# Altium footprint library relay.PCBLIB: 291 footprints (part 15 of 19)
Each footprint in its own frame and in the unit in brackets; x right, y up, seen from the top. Pads: shape width x height; smd on the part's side, far side on the other; paste and mask are expansions set on the pad; w line width, h text height; cw(c..) or ccw(c..) is an arc to the next point about the centre after c.
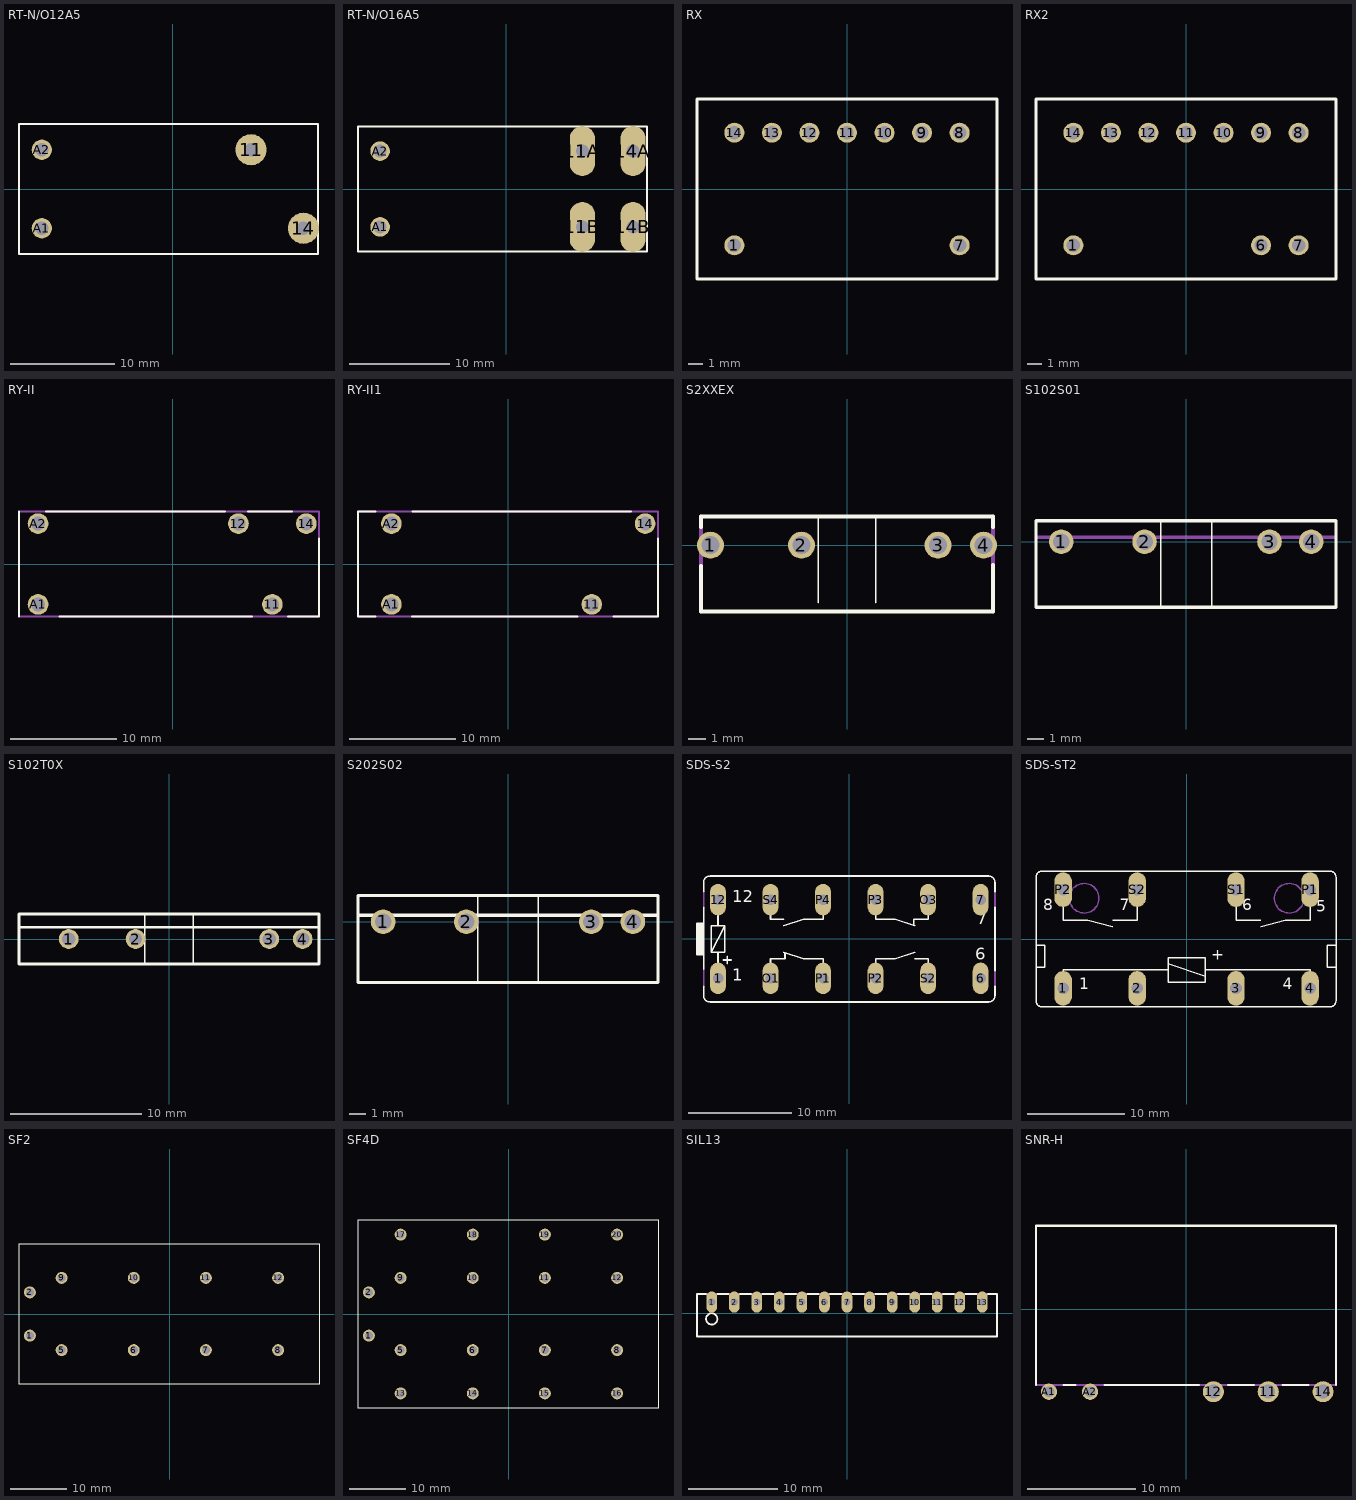
[diagram p14: the footprints below, top view; thin cyan lines are the x and y axes]

## RT-N/O12A5 [mm]
pads (4):
  round 3 hole 1.3: 11(7.56,3.78) 14(12.6,-3.78)
  round 1.95 hole 1.3: A1(-12.6,-3.78) A2(-12.6,3.78)
Top Overlay:
  lines w0.203: -14.8,-6.25 14,-6.25 14,6.25 -14.8,6.25 -14.8,-6.25

## RT-N/O16A5 [mil]
pads (6):
  oval 98.43x196.86 hole 51.18: 11A(297.64,148.82) 11B(297.64,-148.82) 14A(496.06,148.82) 14B(496.06,-148.82)
  round 76.77 hole 51.18: A1(-496.06,-148.82) A2(-496.06,148.82)
Top Overlay:
  lines w8: -582.68,-246.06 551.18,-246.06 551.18,246.06 -582.68,246.06 -582.68,-246.06

## RX [mil]
pads (9):
  round 53.15 hole 35.43: 1(-300,-150) 7(300,-150) 8(300,150) 9(200,150) 10(100,150) 11(0,150) 12(-100,150) 13(-200,150) 14(-300,150)
Top Overlay:
  lines w8: -399.61,-240.16 399.61,-240.16 399.61,240.16 -399.61,240.16 -399.61,-240.16

## RX2 [mil]
pads (10):
  round 53.15 hole 35.43: 1(-300,-150) 6(200,-150) 7(300,-150) 8(300,150) 9(200,150) 10(100,150) 11(0,150) 12(-100,150) 13(-200,150) 14(-300,150)
Top Overlay:
  lines w8: -399.61,-240.16 399.61,-240.16 399.61,240.16 -399.61,240.16 -399.61,-240.16

## RY-II [mil]
pads (5):
  round 76.77 hole 51.18: 11(370.08,-150) 12(244.09,150) 14(496.06,150) A1(-500,-150) A2(-500,150)
Top Overlay:
  lines w8: -570.87,-194.88 -570.87,194.88 ; -470.87,194.88 193.31,194.88 ; -420.87,-194.88 293.31,-194.88 ; 279.13,194.88 443.31,194.88 ; 429.13,-194.88 543.31,-194.88 543.31,94.88
Mechanical 16:
  lines w8: -570.87,-194.88 543.31,-194.88 543.31,194.88 -570.87,194.88

## RY-II1 [mil]
pads (4):
  round 76.77 hole 51.18: 11(311.02,-150) 14(509.45,150) A1(-433.07,-150) A2(-433.07,150)
Top Overlay:
  lines w8: -557.09,194.88 -557.09,-194.88 -492.91,-194.88 ; -553.94,194.88 -492.91,194.88 ; -357.09,-194.88 257.09,-194.88 ; -353.94,194.88 457.09,194.88 ; 392.91,-194.88 557.09,-194.88 557.09,94.88
Mechanical 16:
  lines w8: -557.09,-194.88 557.09,-194.88 557.09,194.88 -557.09,194.88

## S2XXEX [mm]
pads (4):
  round 1.5 hole 1: 1(-7.62,0) 2(-2.54,0) 3(5.08,0) 4(7.62,0)
Top Overlay:
  lines w0.1: -1.6,-3.2 -1.6,1.6 ; 1.6,-3.2 1.6,1.6
  lines w0.203: -8.15,-1.15 -8.15,-3.7 8.15,-3.7 8.15,-1.1 ; -8.15,1 -8.15,1.6 8.15,1.6 8.15,1
Mechanical 16:
  lines w0.203: -8.15,-3.7 -8.15,1.6 ; 8.15,-3.7 8.15,1.6

## S102S01 [mm]
pads (4):
  round 1.5 hole 1: 1(-7.62,0) 2(-2.54,0) 3(5.08,0) 4(7.62,0)
Top Overlay:
  lines w0.1: -1.55,-3.95 -1.55,1.225 ; 1.55,-3.925 1.55,1.23
  lines w0.203: -9.16,-4 9.135,-4 9.135,1.275 -9.16,1.275 -9.16,-4
Mechanical 16:
  lines w0.203: -9.085,0.275 9.035,0.275

## S102T0X [mm]
pads (4):
  round 1.5 hole 1: 1(-7.62,0) 2(-2.54,0) 3(7.62,0) 4(10.16,0)
Top Overlay:
  lines w0.1: -1.85,-1.85 -1.85,1.85 ; 1.85,-1.85 1.85,1.83
  lines w0.203: -11.3,0.9 11.3,0.9 ; -11.4,-1.9 11.4,-1.9 11.4,1.9 -11.4,1.9 -11.4,-1.9

## S202S02 [mm]
pads (4):
  round 1.5 hole 1: 1(-7.62,0) 2(-2.54,0) 3(5.08,0) 4(7.62,0)
Top Overlay:
  lines w0.1: -1.85,-3.65 -1.85,1.55 ; 1.85,-3.65 1.85,1.53
  lines w0.203: -9.025,0.4 9.075,0.4 ; -9.15,-3.7 9.15,-3.7 9.15,1.6 -9.15,1.6 -9.15,-3.7

## SDS-S2 [mil]
pads (12):
  oval 60x120 hole 40: 1(-500,-150) 6(500,-150) 7(500,150) 12(-500,150) O1(-300,-150) O3(300,150) P1(-100,-150) P2(100,-150) P3(100,150) P4(-100,150) S2(300,-150) S4(-300,150)
Top Overlay:
  rectangle: -580,-60 -555,60
  lines w6: -555,-180 -555,-215 ccw(c-530,-215) -530,-240 530,-240 ccw(c530,-215) 555,-215 555,-180 ; -555,-115 -555,-60 ; -555,120 -555,60 ; -555,180 -555,215 cw(c-530,215) -530,240 530,240 cw(c530,215) 555,215 555,180 ; -500,-95 -500,-50 ; -500,95 -500,50 ; -480,-80 -450,-80 ; -465,-95 -465,-65 ; -300,-95 -300,-75 -245,-75 -245,-55 ; -300,95 -300,75 -250,75 ; -250,-50 -175,-75 -100,-75 -100,-95 ; -250,50 -175,75 -100,75 -100,95 ; 100,-95 100,-75 175,-75 250,-50 ; 100,95 100,75 175,75 250,50 ; 245,55 245,75 300,75 300,95 ; 250,-75 300,-75 300,-95 ; 555,-120 555,120 ; -555,-60 -580,-60 -580,60 -555,60 ; -555,-60 -555,60 ; -525,-50 -525,50 -500,50 ; -525,-50 -500,-50 ; -525,-50 -475,50 ; -500,-50 -475,-50 -475,50 ; -500,50 -475,50
  text "1" at -445,-175 h77.5
  text "6" at 480,-95 h77.5
  text "7" at 485,40 h77.5
  text "12" at -445,125 h77.5
Mechanical 16:
  lines w6: -555,-180 -555,-115 ; -555,120 -555,180 ; 555,-180 555,-120 ; 555,120 555,180
  text "SDS-S2" at 425,-150 h77.5

## SDS-ST2 [mil]
pads (8):
  oval 70.5x141 hole 47: 1(-500,-200) 2(-200,-200) 3(200,-200) 4(500,-200) P1(500,200) P2(-500,200) S1(200,200) S2(-200,200)
Top Overlay:
  lines w6: -500,-145 -500,-125 -75,-125 ; -500,145 -500,75 -400,75 -300,50 ; -300,75 -200,75 -200,145 ; 200,145 200,75 300,75 ; 300,50 400,75 500,75 500,145 ; 500,-145 500,-125 75,-125 ; -610,-115 -610,-250 ccw(c-585,-250) -585,-275 580,-275 ccw(c580,-250) 605,-250 605,-115 ; -610,-115 -575,-115 -575,-25 -610,-25 ; -610,-115 -610,-25 ; -610,-25 -610,250 cw(c-585,250) -585,275 580,275 cw(c580,250) 605,250 605,-25 ; -75,-125 -75,-175 75,-175 75,-150 ; -75,-125 -75,-100 ; -75,-100 75,-150 ; -75,-100 -75,-75 75,-75 75,-125 ; 75,-150 75,-125 ; 605,-115 570,-115 570,-25 605,-25 ; 605,-115 605,-25
  text "1" at -435,-220 h77.5
  text "4" at 390,-220 h77.5
  text "5" at 525,95 h77.5
  text "6" at 225,100 h77.5
  text "7" at -270,100 h77.5
  text "8" at -580,100 h77.5
  text "+" at 100,-100 h77.5
Mechanical 16:
  circle w6: c415,165 r60
  circle w6: c-415,165 r60
  text "SDS-ST2" at -160,75 h77.5

## SF2 [mil]
pads (10):
  round 82.68 hole 55.12: 1(-970,-150) 2(-970,150) 5(-750,-250) 6(-250,-250) 7(250,-250) 8(750,-250) 9(-750,250) 10(-250,250) 11(250,250) 12(750,250)
Top Overlay:
  lines w8: -1045.28,-488.19 1033.46,-488.19 1033.46,488.19 -1045.28,488.19 -1045.28,-488.19

## SF4D [mil]
pads (18):
  round 82.68 hole 55.12: 1(-970,-150) 2(-970,150) 5(-750,-250) 6(-250,-250) 7(250,-250) 8(750,-250) 9(-750,250) 10(-250,250) 11(250,250) 12(750,250) 13(-750,-550) 14(-250,-550) 15(250,-550) 16(750,-550) 17(-750,550) 18(-250,550) 19(250,550) 20(750,550)
Top Overlay:
  lines w8: -1045.28,-653.94 1033.46,-653.94 1033.46,654.09 -1045.28,654.09 -1045.28,-653.94

## SIL13 [mil]
pads (13):
  oval 47.25x94.5 hole 31.5: 1(-600,50) 2(-500,50) 3(-400,50) 4(-300,50) 5(-200,50) 6(-100,50) 7(0,50) 8(100,50) 9(200,50) 10(300,50) 11(400,50) 12(500,50) 13(600,50)
Top Overlay:
  circle w8: c-600,-25 r25
  lines w8: -625,85.43 -665.35,85.43 -665.35,-103.54 665.35,-103.54 665.35,85.43 625,85.43 ; -575,85.43 -525,85.43 ; -475,85.43 -425,85.43 ; -375,85.43 -325,85.43 ; -275,85.43 -225,85.43 ; -175,85.43 -125,85.43 ; -75,85.43 -25,85.43 ; 25,85.43 75,85.43 ; 125,85.43 175,85.43 ; 225,85.43 275,85.43 ; 325,85.43 375,85.43 ; 425,85.43 475,85.43 ; 525,85.43 575,85.43
Mechanical 16:
  lines w8: -625,85.43 -575,85.43 ; -525,85.43 -475,85.43 ; -425,85.43 -375,85.43 ; -325,85.43 -275,85.43 ; -225,85.43 -175,85.43 ; -125,85.43 -75,85.43 ; -25,85.43 25,85.43 ; 75,85.43 125,85.43 ; 175,85.43 225,85.43 ; 275,85.43 325,85.43 ; 375,85.43 425,85.43 ; 475,85.43 525,85.43 ; 575,85.43 625,85.43

## SNR-H [mm]
pads (5):
  round 1.95 hole 1.3: 11(7.62,-7.62) 12(2.54,-7.62) 14(12.7,-7.62)
  round 1.5 hole 1: A1(-12.7,-7.62) A2(-8.89,-7.62)
Top Overlay:
  lines w0.203: -13.9,-6.99 -13.9,7.76 13.9,7.76 13.9,-6.99 ; -11.36,-6.99 -10.23,-6.99 ; -7.55,-6.99 1.2,-6.99 ; 3.88,-6.99 6.28,-6.99 ; 8.96,-6.99 11.36,-6.99
Mechanical 16:
  rectangle: -13.2,-7.69 -12.2,-7.04
  rectangle: -9.4,-7.69 -8.4,-7.04
  rectangle: 1.9,-7.69 3.2,-7.09
  rectangle: 7,-7.69 8.25,-7.09
  rectangle: 12.05,-7.75 13.35,-7.05
  lines w0.203: -13.9,-6.99 13.9,-6.99